# EAGLE library part LM2665 (library vreg_local)
Switched Capacitor Doubler 2.7 to 5.5 V, 40 mA Source: LM2665 datasheet <http://www.ti.com/lit/ds/symlink/lm2665.pdf>
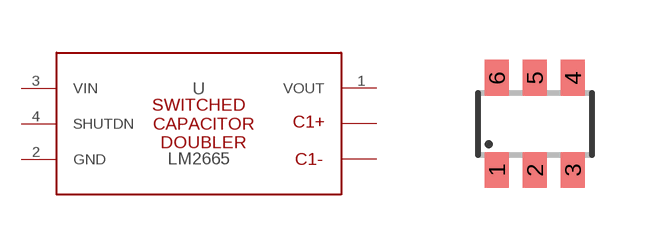
[diagram p0: symbol with the pads of SOT23-6; footprint SOT23-6]

Designator prefix U

## LM266525 (MF: TEXAS INSTRUMENTS; MPN: LM2665DBVR; OC_DIGIKEY: 296-43957-1-ND)  [SOT23-6]
1  VOUT
2  GND
3  VIN
4  SHUTDN
5  C1P
6  C1N

## Footprint SOT23-6 (pad centres in mm)
Small Outline Transistor 6 lead
smd 0.6 x 0.9: 1 -0.95,-1.15; 2 0,-1.15; 3 0.95,-1.15; 4 0.95,1.15; 5 0,1.15; 6 -0.95,1.15